# Altium schematic symbol library TPS7A4701.Schlib: 1 symbol
Pins are listed as number, name and electrical type; pins without a type are passive.

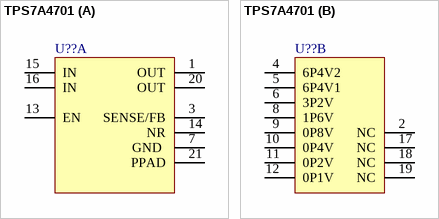
[diagram p0: symbol TPS7A4701]

## TPS7A4701
designator U??
part A pins: 1 OUT, 3 SENSE/FB, 7 GND , 13 EN , 14 NR, 15 IN, 16 IN, 20 OUT, 21 PPAD
part B pins: 2 NC, 4 6P4V2 , 5 6P4V1 , 6 3P2V , 8 1P6V , 9 0P8V, 10 0P4V, 11 0P2V , 12 0P1V , 17 NC, 18 NC, 19 NC